# Altium schematic symbol library Schlib_Magneton.SchLib: 1 symbol
Pins are listed as number, name and electrical type; pins without a type are passive.

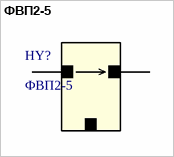
[diagram p0: symbol ФВП2-5]

## ФВП2-5
designator HY?
Manufacturer: ОАО «Завод Магнетон»; fmin: 5.7GHz; fmax: 7.1GHz; ТУ: ПЯ0.223.126ТУ; Part Number: ФВП2-5
footprint FVP2-5
pins: 1, 2